# Altium footprint library PowerDI_5.PcbLib: 1 footprints
Each footprint in its own frame and in the unit in brackets; x right, y up, seen from the top. Pads: shape width x height; smd on the part's side, far side on the other; paste and mask are expansions set on the pad; w line width, h text height; cw(c..) or ccw(c..) is an arc to the next point about the centre after c.
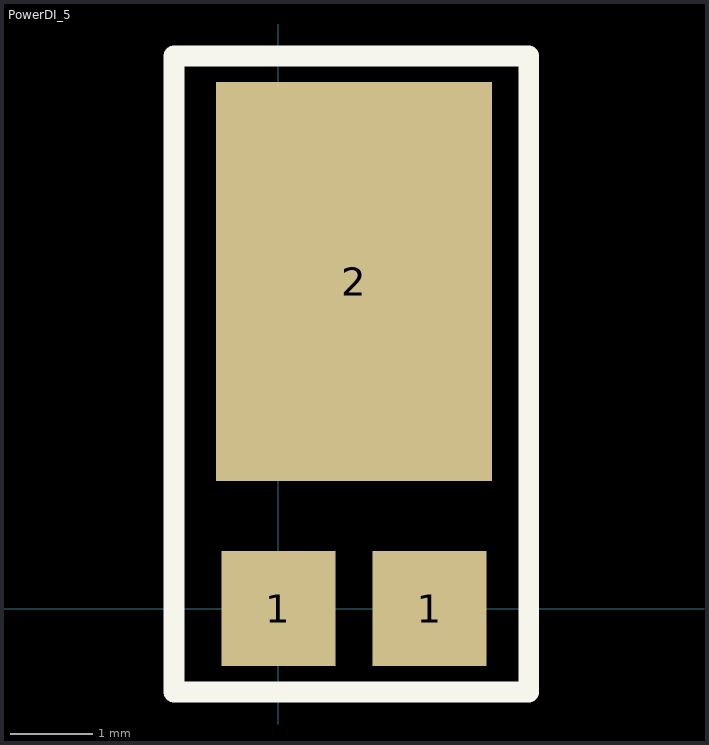
[diagram p0: the footprint, top view; thin cyan lines are the x and y axes]

## PowerDI_5 [mm]
pads (3):
  rect 1.39x1.4 smd: 1(0,0) 1(1.84,0)
  rect 3.36x4.86 smd: 2(0.92,3.982)
Top Overlay:
  lines w0.254: -1.27,-1.016 3.048,-1.016 3.048,6.731 -1.27,6.731 -1.27,-1.016
3D body: height 1.17, standoff 0.02, extent -1.129,-0.377 2.921,6.223